# EAGLE library part E32-TTL (library ipas)
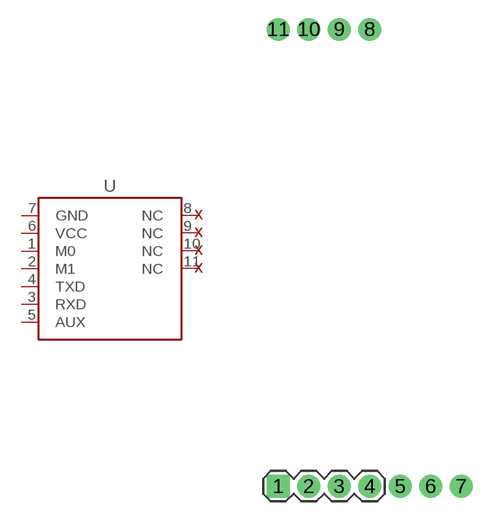
[diagram p36: symbol with the pads of E32-TTL; footprint E32-TTL]

Designator prefix -

## E32-TTL  [E32-TTL]
1  M0  in
2  M1  in
3  RXD  in
4  TXD  out
5  AUX  out
6  VCC  pwr
7  GND  pwr
8  NC1  nc
9  NC2  nc
10  NC3  nc
11  NC4  nc

## Footprint E32-TTL (pad centres in mm)
drill 1.016 pad 1.88 square: 1 0,0
drill 1.016 pad 1.88: 2 2.54,0; 3 5.08,0; 4 7.62,0; 5 10.16,0; 6 12.7,0; 7 15.24,0; 8 7.62,38.1; 9 5.08,38.1; 10 2.54,38.1; 11 0,38.1